# Altium footprint library SOD-323.PcbLib: 1 footprints
Each footprint in its own frame and in the unit in brackets; x right, y up, seen from the top. Pads: shape width x height; smd on the part's side, far side on the other; paste and mask are expansions set on the pad; w line width, h text height; cw(c..) or ccw(c..) is an arc to the next point about the centre after c.
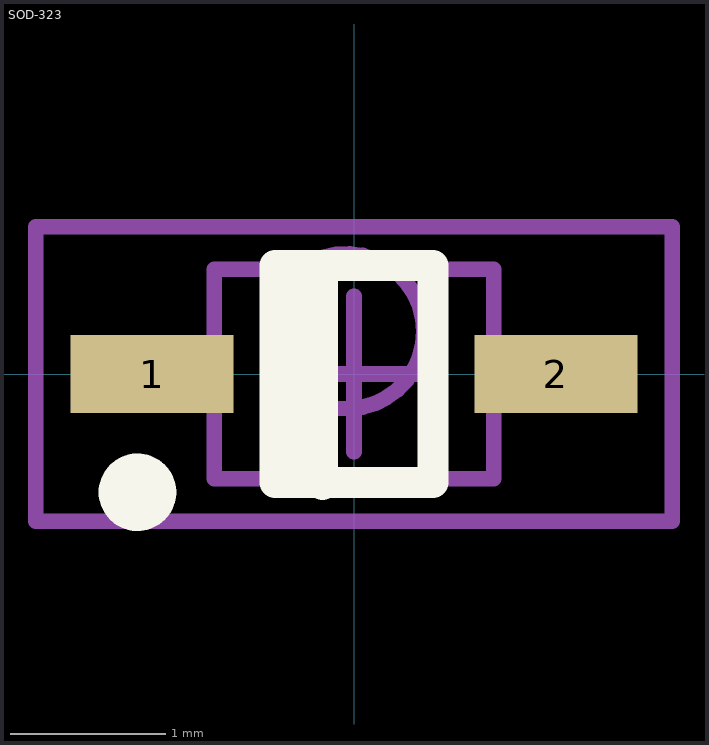
[diagram p0: the footprint, top view; thin cyan lines are the x and y axes]

## SOD-323 [mm] "TSOP, 2-Leads, Body 1.4x1.8mm (max), Pitch 1.00mm, IPC Medium Density"
height 1.1
pads (2):
  rect 1.05x0.5 smd: 1(-1.3,0) 2(1.3,0)
Top Overlay:
  circle w0.25: c-1.395,-0.762 r0.125
  lines w0.2: -0.381,-0.7 -0.381,0.7 ; -0.203,-0.711 -0.203,0.689 ; -0.508,-0.7 0.508,-0.7 0.508,0.7 -0.508,0.7 -0.508,-0.7
Mechanical 13:
  circle w0.1: c-0.05,0.275 r0.5
  lines w0.1: -0.9,-0.675 0.9,-0.675 0.9,0.675 -0.9,0.675 -0.9,-0.675
Mechanical 15:
  lines w0.1: -0.5,0 0.5,0 ; 0,-0.5 0,0.5 ; -2.05,-0.95 2.05,-0.95 2.05,0.95 -2.05,0.95 -2.05,-0.95
3D body: height 1.1, standoff 0.1, extent -0.9,-0.675 0.9,0.675